# Altium schematic symbol library MJWI25-48S12.Schlib: 1 symbol
Pins are listed as number, name and electrical type; pins without a type are passive.

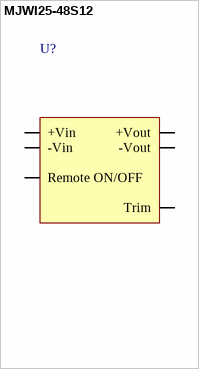
[diagram p0: symbol MJWI25-48S12]

## MJWI25-48S12
designator U?
MinMax 18~75 Volt input, 12V output, 2Amp max
pins: 1 +Vin, 2 -Vin, 3 +Vout, 4 Trim, 5 -Vout, 6 Remote ON/OFF